# Altium footprint library QFN40P300X300X95-25N.PcbLib: 1 footprints
Each footprint in its own frame and in the unit in brackets; x right, y up, seen from the top. Pads: shape width x height; smd on the part's side, far side on the other; paste and mask are expansions set on the pad; w line width, h text height; cw(c..) or ccw(c..) is an arc to the next point about the centre after c.
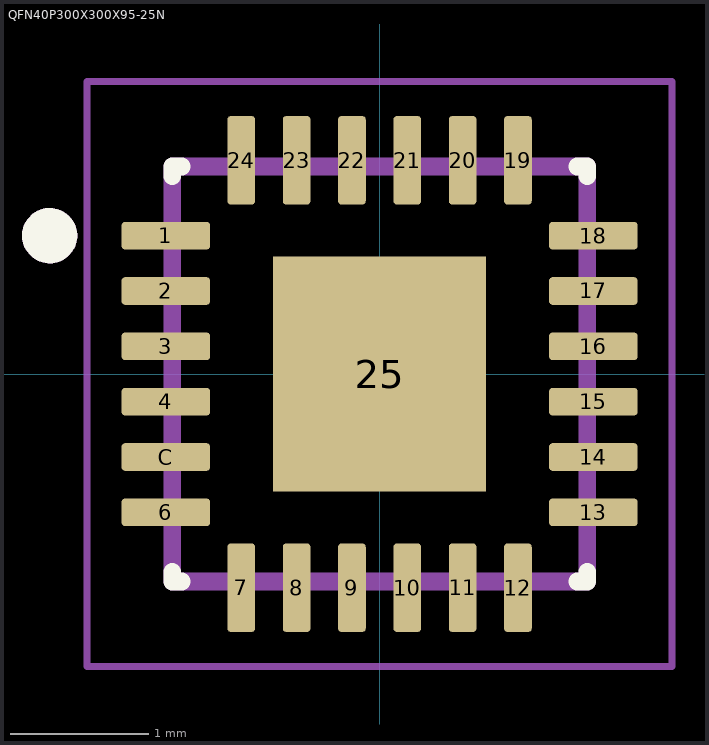
[diagram p0: the footprint, top view; thin cyan lines are the x and y axes]

## QFN40P300X300X95-25N [mm]
height 0.95
pads (25):
  rrect25% 0.64x0.2 smd paste-100 mask+0.051: 1(-1.545,1)
  rrect25% 0.64x0.2 smd mask+0.051: 2(-1.545,0.6) 3(-1.545,0.2) 4(-1.545,-0.2) 6(-1.545,-1) 13(1.545,-1) 14(1.545,-0.6) 15(1.545,-0.2) 16(1.545,0.2) 17(1.545,0.6) 18(1.545,1) C(-1.545,-0.6)
  rrect25% 0.2x0.64 smd mask+0.051: 7(-1,-1.545) 8(-0.6,-1.545) 9(-0.2,-1.545) 10(0.2,-1.545) 11(0.6,-1.545) 12(1,-1.545) 19(1,1.545) 20(0.6,1.545) 21(0.2,1.545) 22(-0.2,1.545) 23(-0.6,1.545) 24(-1,1.545)
  rect 1.54x1.7 smd paste-100 mask+0.051: 25(0,0)
Top Overlay:
  circle w0.2: c-2.385,1 r0.1
  lines w0.127: -1.5,-1.43 -1.5,-1.5 -1.43,-1.5 ; -1.5,1.43 -1.5,1.5 -1.43,1.5 ; 1.43,-1.5 1.5,-1.5 1.5,-1.43 ; 1.43,1.5 1.5,1.5 1.5,1.43
Top Paste:
  region: 0.485,-0.54 -0.485,-0.54 -0.485,0.54 0.485,0.54
Assembly Top:
  circle w0.2: c-2.385,1 r0.1
  lines w0.127: -1.5,-1.5 -1.5,1.5 1.5,1.5 1.5,-1.5 -1.5,-1.5
Courtyard Top:
  lines w0.05: -2.115,-2.115 -2.115,2.115 2.115,2.115 2.115,-2.115 -2.115,-2.115
3D body "step_temp.STEP": height 0.95, standoff 0, extent -1.5,-1.5 1.5,1.5